# Altium footprint library 2PADS_VTN.PcbLib: 1 footprints
Each footprint in its own frame and in the unit in brackets; x right, y up, seen from the top. Pads: shape width x height; smd on the part's side, far side on the other; paste and mask are expansions set on the pad; w line width, h text height; cw(c..) or ccw(c..) is an arc to the next point about the centre after c.
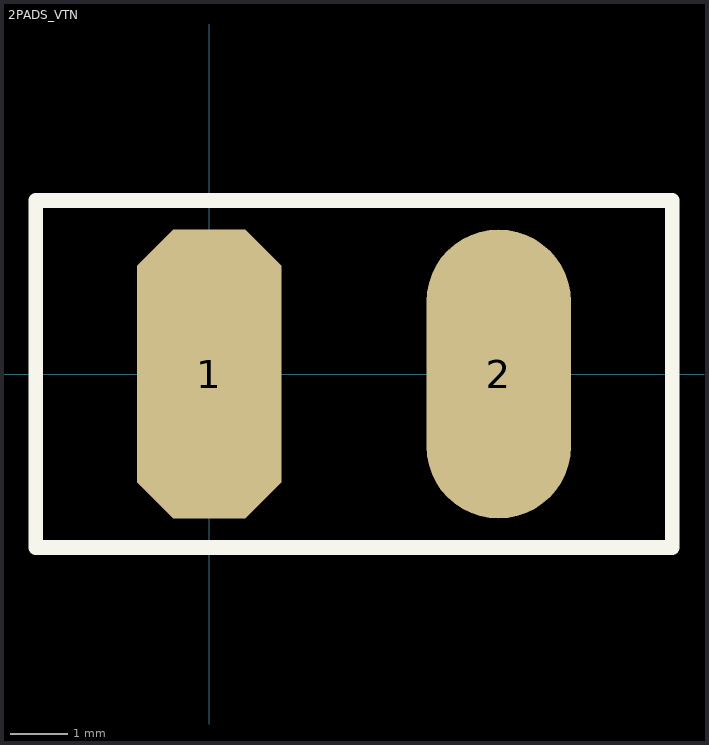
[diagram p0: the footprint, top view; thin cyan lines are the x and y axes]

## 2PADS_VTN [mm]
pads (2):
  oct 2.5x5 smd: 1(0,0)
  oval 2.5x5 smd: 2(5,0)
Top Overlay:
  lines w0.254: -3,-3 -3,3 8,3 8,-3 -3,-3